# EAGLE library part ESP12E (library my-parts)
ESP12E Module
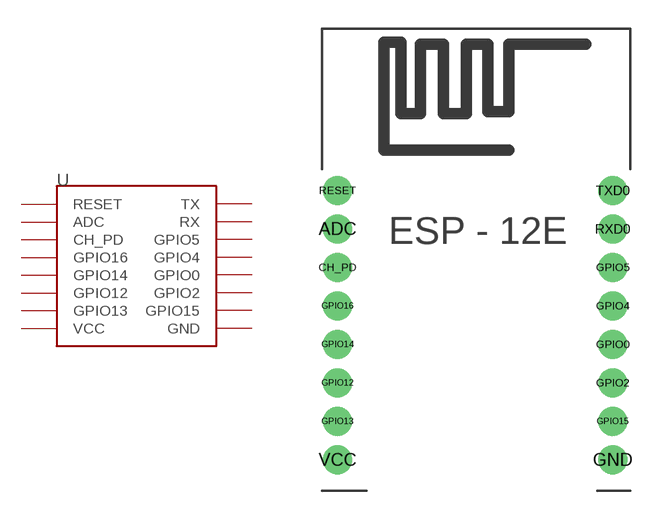
[diagram p0: symbol with the pads of ESP12E-POGO; footprint ESP12E-POGO]

Designator prefix U

## ESP12EPOGO  [ESP12E-POGO]
ADC  ADC
CH_PD  CH_PD
GND  GND
GPIO0  GPIO0
GPIO2  GPIO2
GPIO4  GPIO4
GPIO5  GPIO5
GPIO12  GPIO12
GPIO13  GPIO13
GPIO14  GPIO14
GPIO15  GPIO15
GPIO16  GPIO16
RESET  RESET
RXD0  RX
TXD0  TX
VCC  VCC

## Footprint ESP12E-POGO (pad centres in mm)
ESP8266 Module 12E
drill 1: ADC -7.3,3.8; CH_PD -7.3,1.8; GND 7,-8.2; GPIO0 7,-2.2; GPIO2 7,-4.2; GPIO4 7,-0.2; GPIO5 7,1.8; GPIO12 -7.3,-4.2; GPIO13 -7.3,-6.2; GPIO14 -7.3,-2.2; GPIO15 7,-6.2; GPIO16 -7.3,-0.2; RESET -7.3,5.8; RXD0 7,3.8; TXD0 7,5.8; VCC -7.3,-8.2